# Altium schematic symbol library 87220-2.SchLib: 1 symbol
Pins are listed as number, name and electrical type; pins without a type are passive.

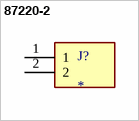
[diagram p0: symbol 87220-2]

## 87220-2
designator J?
MF: {'manufacturer': u'TE Connectivity'}; MP: 87220-2; Value: *; Package: None; Availability: Unavailable; Price: None
footprint TE_87220-2
pins: 1, 2